# EAGLE library part FDC5614P (library pfetreg)
Fairchild P-channel MOSFET -60V FDC5614P , SOT23-6
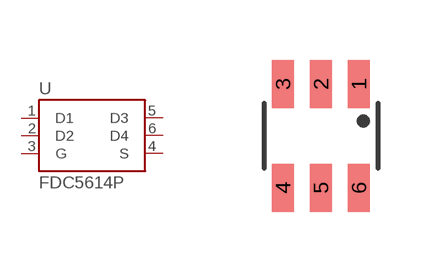
[diagram p1: symbol with the pads of SOT23-6; footprint SOT23-6]

Designator prefix U

## FDC5614PSOT-23  [SOT23-6]
1  D1
2  D2
3  G
4  S
5  D3
6  D4

## Footprint SOT23-6 (pad centres in mm)
smd 0.55 x 1.2: 1 0.95,1.3; 2 0,1.3; 3 -0.95,1.3; 4 -0.95,-1.3; 5 0,-1.3; 6 0.95,-1.3